# EAGLE library part 2.8-TFT-TOUCH (library STMBerry)
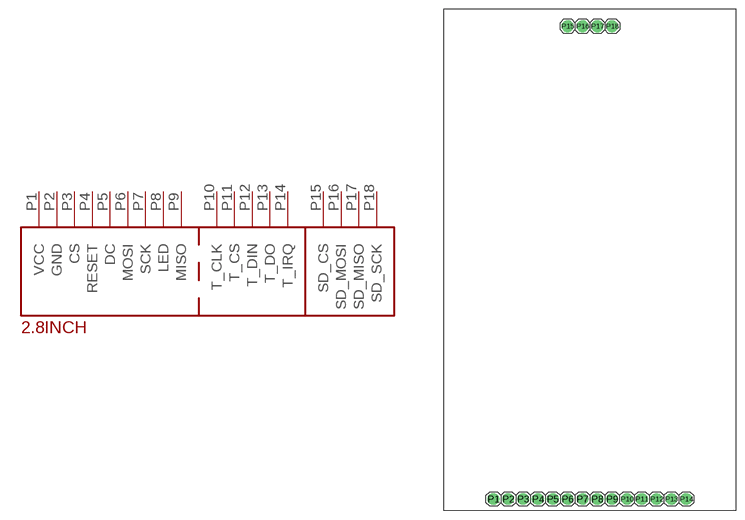
[diagram p5: symbol with the pads of 2.8-TFT-TOUCH; footprint 2.8-TFT-TOUCH]

Designator prefix -

## 2.8-TFT-TOUCH  [2.8-TFT-TOUCH]
P1  VCC
P2  GND
P3  CS
P4  RESET
P5  DC
P6  MOSI
P7  SCK
P8  LED
P9  MISO
P10  T_CLK
P11  T_CS
P12  T_DIN
P13  T_DO
P14  T_IRQ
P15  SD_CS
P16  SD_MOSI
P17  SD_MISO
P18  SD_SCK

## Footprint 2.8-TFT-TOUCH (pad centres in mm)
drill 1 pad 2: P1 -16.52,-41; P2 -13.98,-41; P3 -11.44,-41; P4 -8.9,-41; P5 -6.36,-41; P6 -3.82,-41; P7 -1.28,-41; P8 1.26,-41; P9 3.8,-41; P10 6.34,-41; P11 8.88,-41; P12 11.42,-41; P13 13.96,-41; P14 16.5,-41; P15 -3.81,40.005; P16 -1.27,40.005; P17 1.27,40.005; P18 3.81,40.005